# EAGLE library part TMC21X0 (library we-chip)
Trinamic TMC21x0 Stepper Motor Driver (5V...46V, 1.2A RMS, 256 microsteps) TMC2100 - CFG pins for configuration (standalone) TMC2130 - SPI for configuration
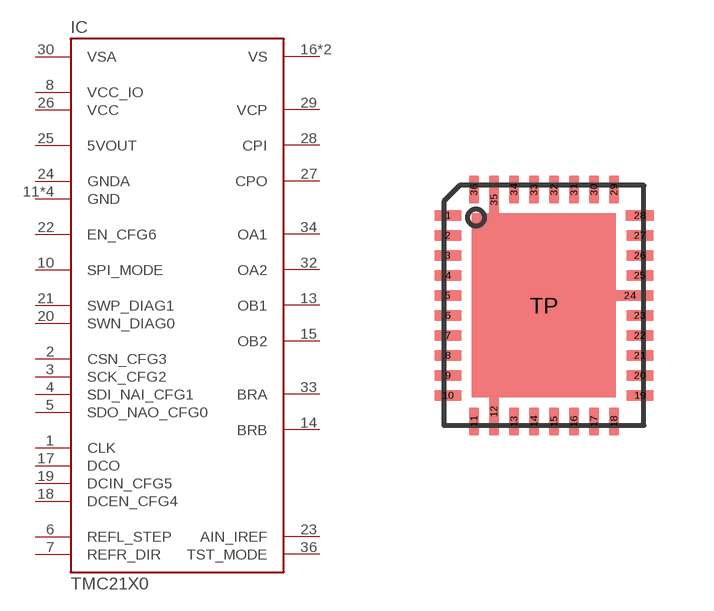
[diagram p16: symbol with the pads of QFN36-PAD; footprint QFN36-PAD]

Designator prefix IC

## TMC21X0-LA  [QFN36-PAD]
1  CLK
2  CSN_CFG3
3  SCK_CFG2
4  SDI_NAI_CFG1
5  SDO_NAO_CFG0
6  REFL_STEP
7  REFR_DIR
8  VCC_IO  pwr
10  SPI_MODE
11  GND  pwr
12  GND  pwr
13  OB1  out
14  BRB  out
15  OB2  out
16  VS  pwr
17  DCO
18  DCEN_CFG4
19  DCIN_CFG5
20  SWN_DIAG0
21  SWP_DIAG1
22  EN_CFG6
23  AIN_IREF  pas
24  GNDA  pwr
25  5VOUT  pwr
26  VCC  pwr
27  CPO  pas
28  CPI  pas
29  VCP  pas
30  VSA  pwr
31  VS  pwr
32  OA2  out
33  BRA  out
34  OA1  out
35  GND  pwr
36  TST_MODE
TP  GND  pwr

## Footprint QFN36-PAD (pad centres in mm)
smd 0.7 x 0.26: 1 -2.4,2.25; 2 -2.4,1.75; 3 -2.4,1.25; 4 -2.4,0.75; 5 -2.4,0.25; 6 -2.4,-0.25; 7 -2.4,-0.75; 8 -2.4,-1.25; 9 -2.4,-1.75; 10 -2.4,-2.25; 19 2.4,-2.25; 20 2.4,-1.75; 21 2.4,-1.25; 22 2.4,-0.75; 23 2.4,-0.25; 25 2.4,0.75; 26 2.4,1.25; 27 2.4,1.75; 28 2.4,2.25
smd 0.26 x 0.7: 11 -1.75,-2.9; 13 -0.75,-2.9; 14 -0.25,-2.9; 15 0.25,-2.9; 16 0.75,-2.9; 17 1.25,-2.9; 18 1.75,-2.9; 29 1.75,2.9; 30 1.25,2.9; 31 0.75,2.9; 32 0.25,2.9; 33 -0.25,2.9; 34 -0.75,2.9; 36 -1.75,2.9
smd 0.26 x 1.2: 12 -1.25,-2.65; 35 -1.25,2.65
smd 1.2 x 0.26: 24 2.15,0.25
smd 0.6 x 0.6: TP 0,0